# Altium footprint library aiskylab-14Connectors-20TestAndMechenical.PcbLib: 45 footprints (part 3 of 3)
Each footprint in its own frame and in the unit in brackets; x right, y up, seen from the top. Pads: shape width x height; smd on the part's side, far side on the other; paste and mask are expansions set on the pad; w line width, h text height; cw(c..) or ccw(c..) is an arc to the next point about the centre after c.
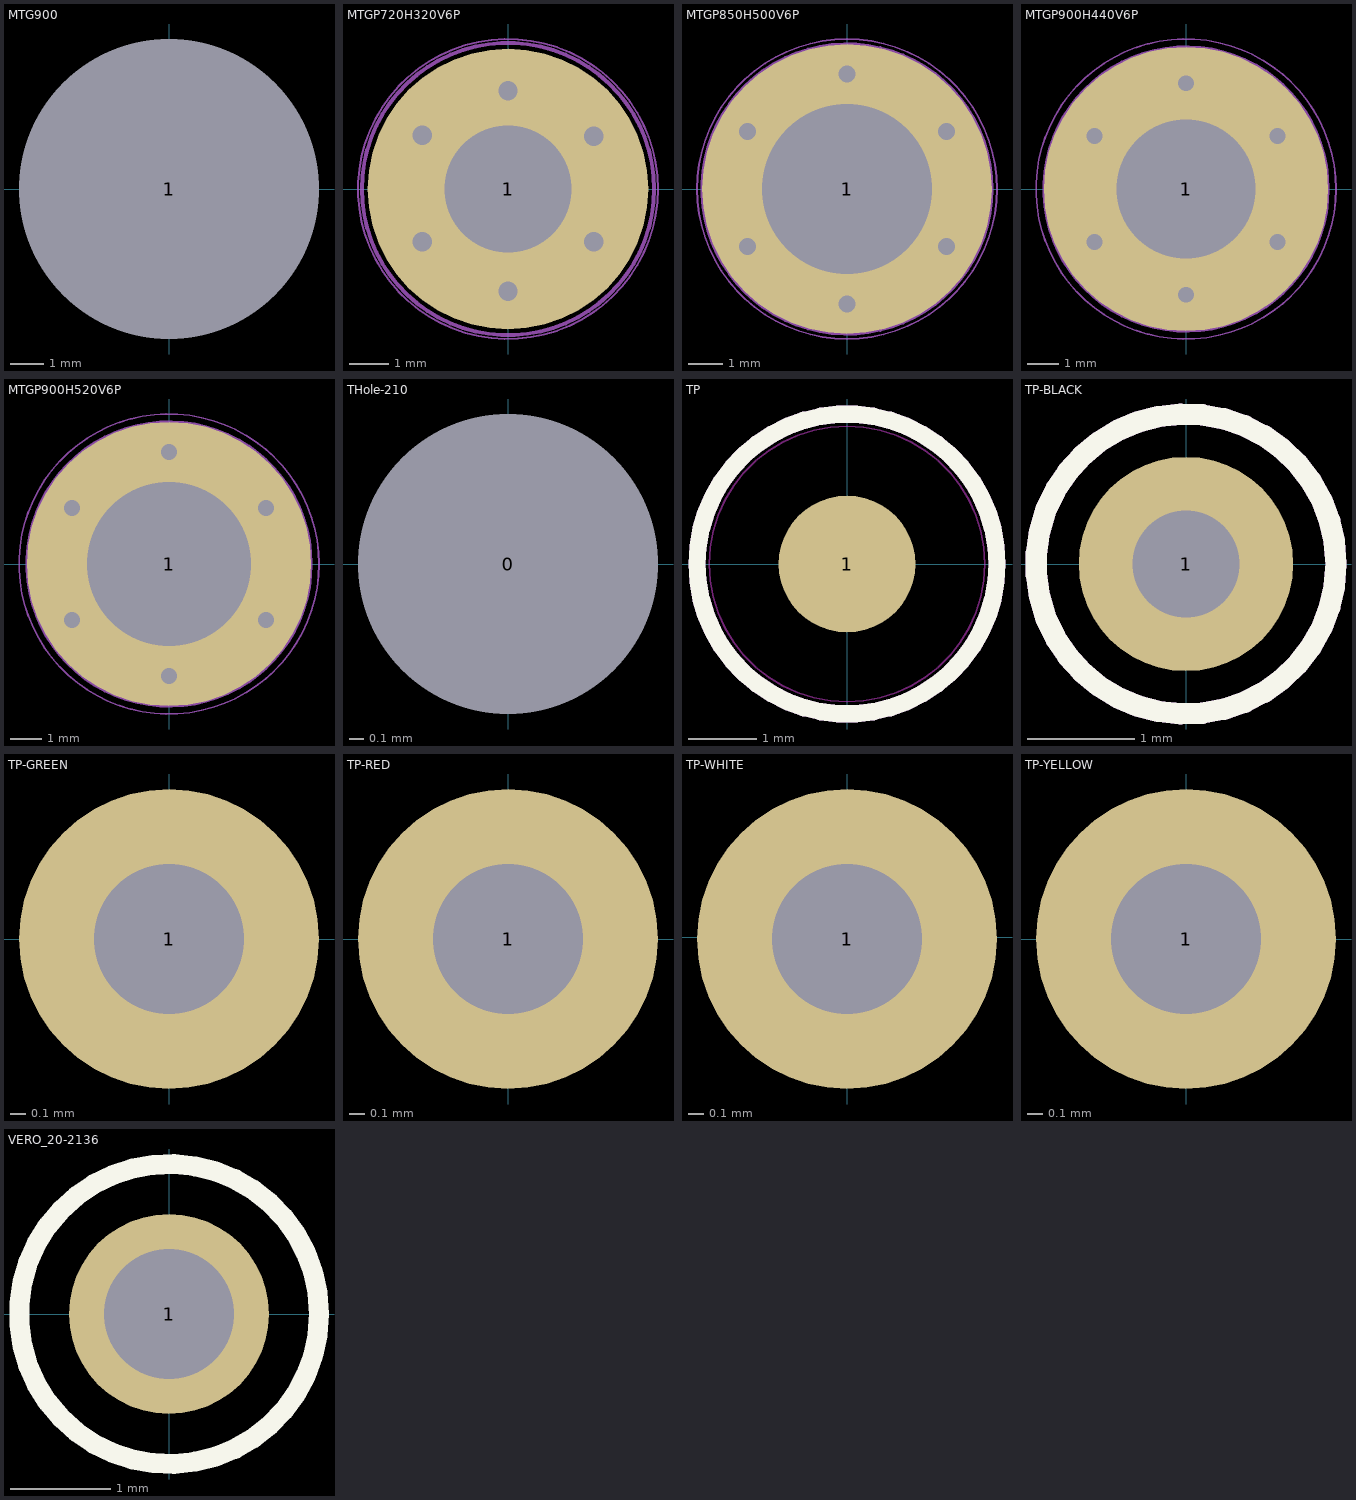
[diagram p2: the footprints below, top view; thin cyan lines are the x and y axes]

## MTG900 [mm] "Non Plated Through Hole: Hole Dia.=9.0mm"
height 11.7
pads (1):
  round 1 hole 9 unplated mask+4: 1(0,0)

## MTGP720H320V6P [mm]
pads (1):
  round 7.2 hole 3.25: 1(0,0)
via -2.2,-1.35 diameter 1 hole 0.5
via -2.2,1.375 diameter 1 hole 0.5
via 0,2.525 diameter 1 hole 0.5
via 2.2,1.35 diameter 1 hole 0.5
via 0,-2.625 diameter 1 hole 0.5
via 2.2,-1.35 diameter 1 hole 0.5
Top Dimensions:
  circle w0.1: c0,0 r2.6
  circle w0.1: c0,0 r3.75
  lines w0.1: -2.657,1.625 -2.224,1.375 ; -2.632,-1.6 -2.199,-1.35 ; -2.474,0.942 -2.224,1.375 ; -2.449,-0.917 -2.199,-1.35 ; -1.974,1.808 -2.224,1.375 ; -1.949,-1.783 -2.199,-1.35 ; -1.791,1.125 -2.224,1.375 ; -1.766,-1.1 -2.199,-1.35 ; -0.5,-2.625 0,-2.625 ; -0.5,0 0,0 ; -0.5,2.525 0,2.525 ; 0,-3.125 0,-2.625 ; 0,-2.125 0,-2.625 ; 0,-0.5 0,0 ; 0,0.5 0,0 ; 0,2.025 0,2.525 ; 0,3.025 0,2.525 ; 0.5,-2.625 0,-2.625 ; 0.5,0 0,0 ; 0.5,2.525 0,2.525 ; 1.766,-1.1 2.199,-1.35 ; 1.766,1.1 2.199,1.35 ; 1.949,-1.783 2.199,-1.35 ; 1.949,1.783 2.199,1.35 ; 2.449,-0.917 2.199,-1.35 ; 2.449,0.917 2.199,1.35 ; 2.632,-1.6 2.199,-1.35 ; 2.632,1.6 2.199,1.35
Top Component Outline:
  circle w0.05: c0,0 r3.85
Top 3D Body:
  circle w0.1: c0,0 r3.75
3D body "mtgp720h320v6p.stp": height 0.1, standoff -1.75, extent -3.627,-3.627 3.628,3.628

## MTGP850H500V6P [mm] "Plated Through Hole: Hole Dia.=5mm Pad Dia.=8.5mm + 6 Via Dia.=0.5mm"
height 11.7
pads (1):
  round 8.5 hole 5: 1(0,0)
via 0,3.375 diameter 1 hole 0.5
via 2.923,1.687 diameter 1 hole 0.5
via 2.923,-1.687 diameter 1 hole 0.5
via 0,-3.375 diameter 1 hole 0.5
via -2.923,-1.687 diameter 1 hole 0.5
via -2.923,1.687 diameter 1 hole 0.5
Top Component Outline:
  circle w0.05: c0,0 r4.4
Top 3D Body:
  circle w0.1: c0,0 r4.25
3D body "v850-500.stp": height 0.02, standoff -1.65, extent -4.25,-4.25 4.25,4.25

## MTGP900H440V6P [mm] "Plated Through Hole: Hole Dia.=4.4mm Pad Dia.=9mm + 6 Via Dia.=0.5mm"
height 11.7
pads (1):
  round 9 hole 4.4: 1(0,0)
via -2.901,-1.675 diameter 1 hole 0.5
via 2.901,-1.675 diameter 1 hole 0.5
via 0,-3.35 diameter 1 hole 0.5
via 2.901,1.675 diameter 1 hole 0.5
via 0,3.35 diameter 1 hole 0.5
via -2.901,1.675 diameter 1 hole 0.5
Top Dimensions:
  circle w0.1: c0,0 r4.5
  circle w0.1: c0,0 r2.2
  lines w0.1: -3.334,-1.925 -2.901,-1.675 ; -3.334,1.925 -2.901,1.675 ; -3.151,-1.242 -2.901,-1.675 ; -3.151,1.242 -2.901,1.675 ; -2.651,-2.108 -2.901,-1.675 ; -2.651,2.108 -2.901,1.675 ; -2.468,-1.425 -2.901,-1.675 ; -2.468,1.425 -2.901,1.675 ; -0.5,-3.35 0,-3.35 ; -0.5,0 0,0 ; -0.5,3.35 0,3.35 ; 0,-3.85 0,-3.35 ; 0,-2.85 0,-3.35 ; 0,-0.5 0,0 ; 0,0.5 0,0 ; 0,2.85 0,3.35 ; 0,3.85 0,3.35 ; 0.5,-3.35 0,-3.35 ; 0.5,0 0,0 ; 0.5,3.35 0,3.35 ; 2.468,-1.425 2.901,-1.675 ; 2.468,1.425 2.901,1.675 ; 2.651,-2.108 2.901,-1.675 ; 2.651,2.108 2.901,1.675 ; 3.151,-1.242 2.901,-1.675 ; 3.151,1.242 2.901,1.675 ; 3.334,-1.925 2.901,-1.675 ; 3.334,1.925 2.901,1.675
Top Component Outline:
  circle w0.05: c0,0 r4.75
Top 3D Body:
  circle w0.1: c0,0 r4.5
3D body "v900-440.stp": height 0.02, standoff -1.65, extent -4.5,-4.5 4.5,4.5

## MTGP900H520V6P [mm] "Plated Through Hole: Hole Dia.=4.4mm Pad Dia.=9mm + 6 Via Dia.=0.5mm"
height 11.7
pads (1):
  round 9 hole 5.2: 1(0,0)
via -3.074,-1.775 diameter 1 hole 0.5
via 3.074,-1.775 diameter 1 hole 0.5
via 0,-3.55 diameter 1 hole 0.5
via 3.074,1.775 diameter 1 hole 0.5
via 0,3.55 diameter 1 hole 0.5
via -3.074,1.775 diameter 1 hole 0.5
Top Dimensions:
  circle w0.1: c0,0 r4.5
  circle w0.1: c0,0 r2.6
  lines w0.1: -3.507,-2.025 -3.074,-1.775 ; -3.507,2.025 -3.074,1.775 ; -3.324,-1.342 -3.074,-1.775 ; -3.324,1.342 -3.074,1.775 ; -2.824,-2.208 -3.074,-1.775 ; -2.824,2.208 -3.074,1.775 ; -2.641,-1.525 -3.074,-1.775 ; -2.641,1.525 -3.074,1.775 ; -0.5,-3.55 0,-3.55 ; -0.5,0 0,0 ; -0.5,3.55 0,3.55 ; 0,-4.05 0,-3.55 ; 0,-3.05 0,-3.55 ; 0,-0.5 0,0 ; 0,0.5 0,0 ; 0,3.05 0,3.55 ; 0,4.05 0,3.55 ; 0.5,-3.55 0,-3.55 ; 0.5,0 0,0 ; 0.5,3.55 0,3.55 ; 2.641,-1.525 3.074,-1.775 ; 2.641,1.525 3.074,1.775 ; 2.824,-2.208 3.074,-1.775 ; 2.824,2.208 3.074,1.775 ; 3.324,-1.342 3.074,-1.775 ; 3.324,1.342 3.074,1.775 ; 3.507,-2.025 3.074,-1.775 ; 3.507,2.025 3.074,1.775
Top Component Outline:
  circle w0.05: c0,0 r4.75
Top 3D Body:
  circle w0.1: c0,0 r4.5
3D body "v900-520.stp": height 0.02, standoff -1.65, extent -4.5,-4.5 4.5,4.5

## THole-210 [mm]
pads (1):
  round 2 / inner round 2.1 / far side round 2.1 hole 2.1: 0(0,0)

## TP [mm]
height 11.7
pads (1):
  round 2 smd mask+1: 1(0,0)
Top Overlay:
  circle w0.254: c0,0 r2.195
Keep-Out Layer:
  circle w0.025: c0,0 r2.017
Top Designator:
  text ".Designator" at -7.618,-0.508 h1.52
Top Assembly:
  circle w0.254: c0,0 r2.195
Top Component Outline:
  circle w0.254: c0,0 r2.195
3D body "1_016-1_016-3_tp.stp": height 0.02, standoff 0, extent -1.5,-1.5 1.5,1.5

## TP-BLACK [mm]
height 11.7
pads (1):
  round 2 hole 1: 1(0,0)
Top Overlay:
  circle w0.2: c0,0 r1.399
Top Designator:
  text ".Designator" at -7.617,-0.508 h1.52
Top Assembly:
  circle w0.2: c0,0 r1.399
3D body "tp-blaok.stp": height 4.9, standoff -3, extent -1.25,-1.25 1.25,1.25

## TP-GREEN [mm]
height 11.7
pads (1):
  round 2 hole 1: 1(0,0)
Top Designator:
  text ".Designator" at -7.617,-0.508 h1.52
3D body "tp-Groen.stp": height 4.9, standoff -3, extent -1.25,-1.25 1.25,1.25

## TP-RED [mm]
height 11.7
pads (1):
  round 2 hole 1: 1(0,0)
Top Designator:
  text ".Designator" at -7.617,-0.508 h1.52
3D body "tp-Red.stp": height 4.9, standoff -3, extent -1.25,-1.25 1.25,1.25

## TP-WHITE [mm]
height 11.7
pads (1):
  round 2 hole 1: 1(0,-0.013)
Top Designator:
  text ".Designator" at -7.618,-0.521 h1.52
3D body "tp-white.stp": height 4.9, standoff -3, extent -1.25,-1.263 1.25,1.237

## TP-YELLOW [mm]
height 11.7
pads (1):
  round 2 hole 1: 1(0,0)
Top Designator:
  text ".Designator" at -7.617,-0.508 h1.52
3D body "tp-huang.stp": height 4.9, standoff -3, extent -1.25,-1.25 1.25,1.25

## VERO_20-2136 [mm] "Black Bead PCB Terminal Test Pin (1.32 mm hole)"
height 5.4
pads (1):
  round 2 hole 1.3: 1(0,0)
Top Overlay:
  circle w0.2: c0,0 r1.5
Top Designator:
  text ".Designator" at -7.618,-0.508 h1.52
Top 3D Body:
  circle w0.1: c0,0 r1.5
3D body "VERO_20-2136.stp": height 5.4, standoff -3.17, extent -1.5,-1.5 1.5,1.5